# Altium footprint library 开关封装库.PcbLib: 24 footprints (part 2 of 2)
Each footprint in its own frame and in the unit in brackets; x right, y up, seen from the top. Pads: shape width x height; smd on the part's side, far side on the other; paste and mask are expansions set on the pad; w line width, h text height; cw(c..) or ccw(c..) is an arc to the next point about the centre after c.
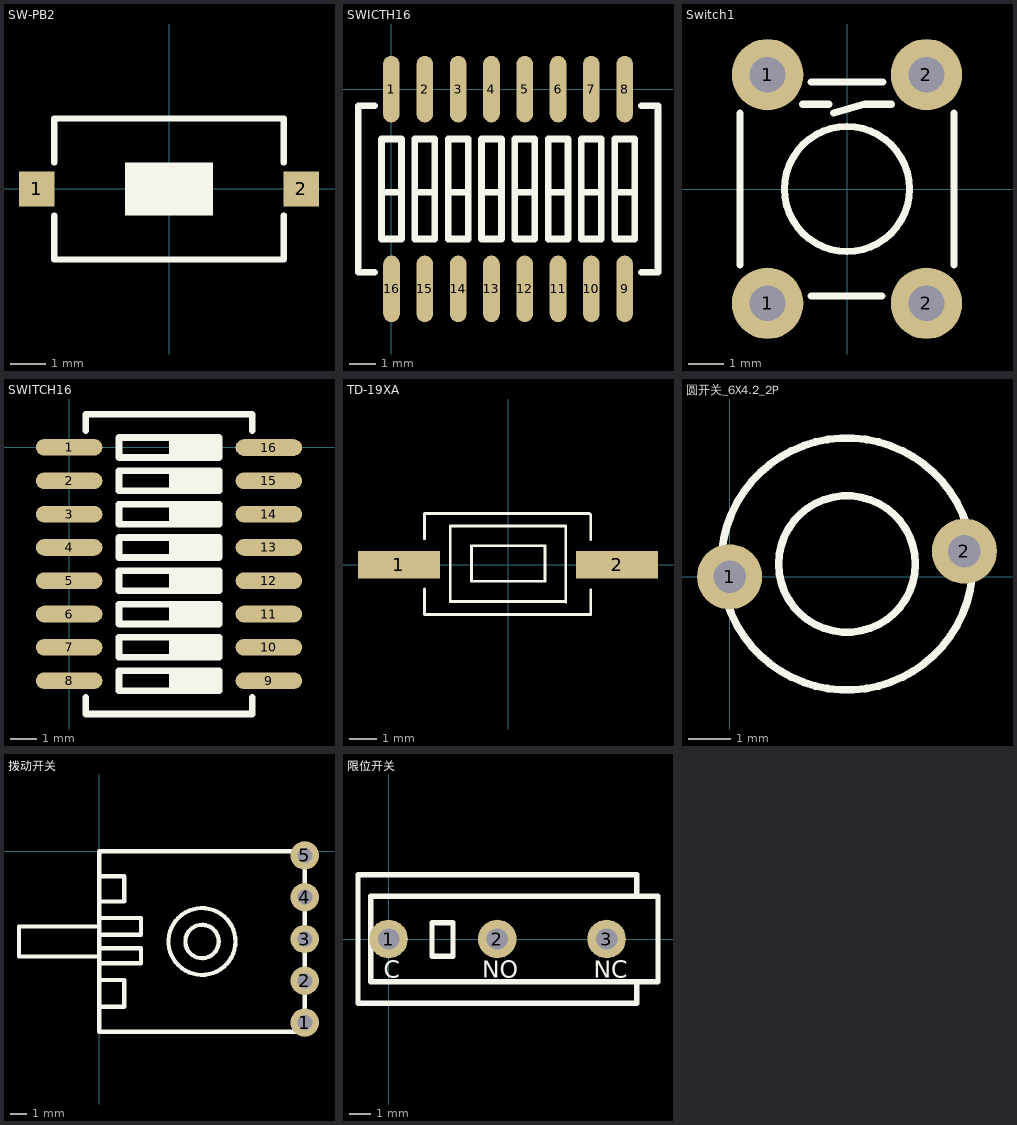
[diagram p1: the footprints below, top view; thin cyan lines are the x and y axes]

## SW-PB2 [mm]
pads (2):
  rect 1x1 smd: 1(-3.756,-0.007) 2(3.744,-0.007)
Top Overlay:
  rectangle: -1.256,-0.757 1.244,0.743
  lines w0.178: -3.256,-0.757 -3.256,-2.007 3.244,-2.007 3.244,-0.757 ; -3.256,0.743 -3.256,1.993 3.244,1.993 3.244,0.743

## SWICTH16 [mil]
pads (16):
  oval 25x100 smd: 1(0,0) 2(50.34,0.01) 3(100.34,0.01) 4(150.34,0.01) 5(200.34,0.01) 6(250.34,0.01) 7(300.34,0.01) 8(350.34,0.01) 9(350.34,-299.99) 10(300.34,-299.99) 11(250.34,-299.99) 12(200.34,-299.99) 13(150.34,-299.99) 14(100.34,-299.99) 15(50.34,-299.99) 16(0.34,-299.99)
Top Overlay:
  lines w10: -24.66,-274.99 -49.66,-274.99 -49.66,-24.99 -24.66,-24.99 ; -14.66,-154.99 15.34,-154.99 ; 35.34,-154.99 60.34,-154.99 ; 85.34,-154.99 115.34,-154.99 ; 135.34,-154.99 165.34,-154.99 ; 185.34,-154.99 215.34,-154.99 ; 235.34,-154.99 265.34,-154.99 ; 285.34,-154.99 315.34,-154.99 ; 335.34,-154.99 365.34,-154.99 ; 375.34,-274.99 400.34,-274.99 400.34,-24.99 375.34,-24.99 ; -14.66,-224.99 15.34,-224.99 15.34,-74.99 -14.66,-74.99 -14.66,-224.99 ; 35.34,-224.99 65.34,-224.99 65.34,-74.99 35.34,-74.99 35.34,-224.99 ; 85.34,-224.99 115.34,-224.99 115.34,-74.99 85.34,-74.99 85.34,-209.99 85.34,-224.99 ; 135.34,-224.99 165.34,-224.99 165.34,-74.99 135.34,-74.99 135.34,-224.99 ; 185.34,-224.99 215.34,-224.99 215.34,-74.99 185.34,-74.99 185.34,-209.99 185.34,-224.99 ; 235.34,-224.99 265.34,-224.99 265.34,-74.99 235.34,-74.99 235.34,-224.99 ; 285.34,-224.99 315.34,-224.99 315.34,-74.99 285.34,-74.99 285.34,-224.99 ; 335.34,-224.99 365.34,-224.99 365.34,-74.99 335.34,-74.99 335.34,-224.99

## Switch1 [mil]
pads (4):
  round 80 hole 40: 1(-89,-128) 1(-89,128) 2(89,-128) 2(89,128)
Top Overlay:
  circle w8: c0,0 r70
  lines w8: -120,-85 -120,85 ; -50,95 -20,95 ; -40,-120 39.29,-120 ; -40,120 40.47,120 ; -15,85 20,95 50,95 ; 120,-85 120,85
3D body: height 212.6, standoff -118.11, extent -118.11,-161.65 118.11,161.65

## SWITCH16 [mil]
pads (16):
  oval 100x25 smd: 1(0,0) 2(-0.01,-50.34) 3(-0.01,-100.34) 4(-0.01,-150.34) 5(-0.01,-200.34) 6(-0.01,-250.34) 7(-0.01,-300.34) 8(-0.01,-350.34) 9(299.99,-350.34) 10(299.99,-300.34) 11(299.99,-250.34) 12(299.99,-200.34) 13(299.99,-150.34) 14(299.99,-100.34) 15(299.99,-50.34) 16(299.99,-0.34)
Top Overlay:
  region: 154.99,14.66 154.99,-15.34 224.99,-15.34 224.99,14.66
  region: 154.99,-35.34 154.99,-65.34 224.99,-65.34 224.99,-35.34
  region: 154.99,-85.34 154.99,-115.34 224.99,-115.34 224.99,-85.34
  region: 154.99,-135.34 154.99,-165.34 224.99,-165.34 224.99,-135.34
  region: 154.99,-285.34 154.99,-315.34 224.99,-315.34 224.99,-285.34
  region: 154.99,-335.34 154.99,-365.34 224.99,-365.34 224.99,-335.34
  region: 154.99,-185.34 154.99,-215.34 224.99,-215.34 224.99,-185.34
  region: 154.99,-235.34 154.99,-265.34 224.99,-265.34 224.99,-235.34
  lines w10: 24.99,-375.34 24.99,-400.34 274.99,-400.34 274.99,-375.34 ; 24.99,24.66 24.99,49.66 274.99,49.66 274.99,24.66 ; 154.99,-365.34 154.99,-335.34 ; 154.99,-315.34 154.99,-285.34 ; 154.99,-265.34 154.99,-235.34 ; 154.99,-215.34 154.99,-185.34 ; 154.99,-165.34 154.99,-135.34 ; 154.99,-115.34 154.99,-85.34 ; 154.99,-60.34 154.99,-35.34 ; 154.99,-15.34 154.99,14.66 ; 74.99,-365.34 224.99,-365.34 224.99,-335.34 74.99,-335.34 74.99,-365.34 ; 74.99,-315.34 224.99,-315.34 224.99,-285.34 74.99,-285.34 74.99,-315.34 ; 74.99,-265.34 224.99,-265.34 224.99,-235.34 74.99,-235.34 74.99,-265.34 ; 74.99,-215.34 224.99,-215.34 224.99,-185.34 209.99,-185.34 74.99,-185.34 74.99,-215.34 ; 74.99,-165.34 224.99,-165.34 224.99,-135.34 74.99,-135.34 74.99,-165.34 ; 74.99,-115.34 224.99,-115.34 224.99,-85.34 209.99,-85.34 74.99,-85.34 74.99,-115.34 ; 74.99,-65.34 224.99,-65.34 224.99,-35.34 74.99,-35.34 74.99,-65.34 ; 74.99,-15.34 224.99,-15.34 224.99,14.66 74.99,14.66 74.99,-15.34

## TD-19XA [mm]
pads (2):
  rect 3x1 smd: 1(-4,0) 2(4,0)
Top Overlay:
  lines w0.1: -3.064,-1.829 3.036,-1.829 3.036,-0.914 ; -3.06,-1.82 -3.06,-0.895 ; -3.06,0.955 -3.06,1.88 2.985,1.88 3.036,1.829 3.036,0.914 ; 1.359,0.644 1.359,-0.61 -1.341,-0.61 -1.341,0.69 1.359,0.69 ; -2.12,-1.346 2.096,-1.346 2.121,-1.372 2.121,1.422 -2.12,1.422 -2.12,-1.346
3D body: height 2.5, standoff 0, extent -3.92,-1.854 3.97,1.996

## 圆开关_6X4.2_2P [mil]
pads (2):
  round 60 hole 30: 1(0,0) 2(216.54,23.62)
Top Overlay:
  circle w7: c108.27,11.81 r116.14
  circle w7: c108.27,11.81 r62.99

## 拨动开关 [mm]
pads (5):
  round 1.7 hole 0.9: 1(12.3,-10.25) 2(12.3,-7.75) 3(12.3,-5.25) 4(12.3,-2.75) 5(12.3,-0.25)
Top Overlay:
  circle w0.25: c6.15,-5.4 r2
  circle w0.25: c6.15,-5.4 r1
  lines w0.254: 0,-9.2 0,-9.3 1.5,-9.3 1.5,-7.7 0,-7.7 ; 0,-6.7 2.5,-6.7 2.5,-5.8 0,-5.8 ; 0,-6.3 -4.8,-6.3 -4.8,-4.5 0,-4.5 ; 0,-5 2.5,-5 2.5,-4 0,-4 ; 0,-3 1.5,-3 1.5,-1.5 0,-1.5 ; 0,-10.8 12.3,-10.8 12.3,0 0,0 0,-10.8

## 限位开关 [mm]
pads (3):
  round 1.8 hole 1: 1(0,0) 2(5.075,0) 3(10.175,0)
Top Overlay:
  lines w0.254: 11.575,-2 11.575,-3 -1.425,-3 -1.425,3 11.575,3 11.575,2 ; -0.825,-2 -0.825,2 12.575,2 12.575,-2 -0.825,-2 ; 2.027,-0.798 3.007,-0.798 3.007,0.762 2.027,0.762 2.027,-0.798
  text "NC" at 9.575,-1.8 h0.8
  text "NO" at 4.375,-1.8 h0.8
  text "C" at -0.225,-1.8 h0.8